# EAGLE library part THAT1510 (library THAT1510)
THAT1510 High Performance Audio Preamp (DIP) Datasheet: http://www.thatcorp.com/datashts/THAT_1510-1512_Datasheet.pdf
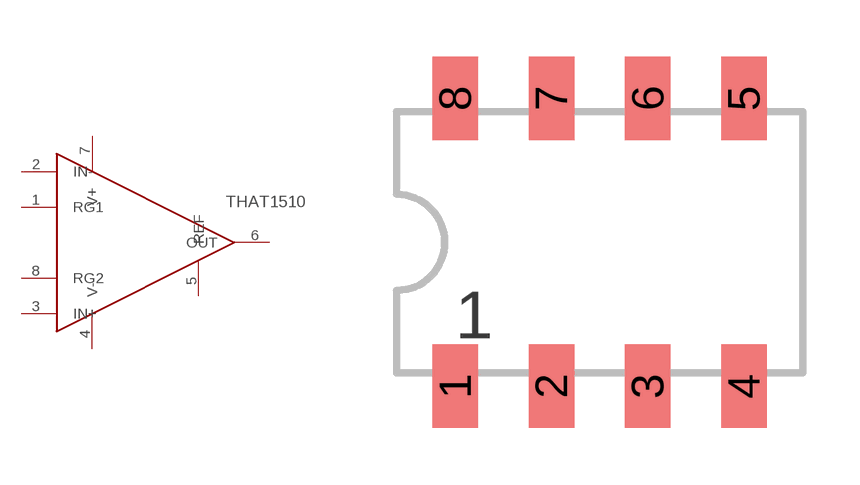
[diagram p0: symbol with the pads of THAT1510; footprint THAT1510]

Designator prefix -

## THAT1510  [THAT1510]
1  RG1
2  IN-  in
3  IN+  in
4  V-  pwr
5  REF
6  OUT  out
7  V+  pwr
8  RG2

## Footprint THAT1510 (pad centres in mm)
THAT1510 High Performance Audio Preamp (DIP) Datasheet: http://www.thatcorp.com/datashts/THAT_1510-1512_Datasheet.pdf
smd 1.2 x 2.2: 1 -3.81,-3.8; 2 -1.27,-3.8; 3 1.27,-3.8; 4 3.81,-3.8; 5 3.81,3.8; 6 1.27,3.8; 7 -1.27,3.8; 8 -3.81,3.8